# EAGLE library part BCK_LM (library Eagle_CAD_parts)
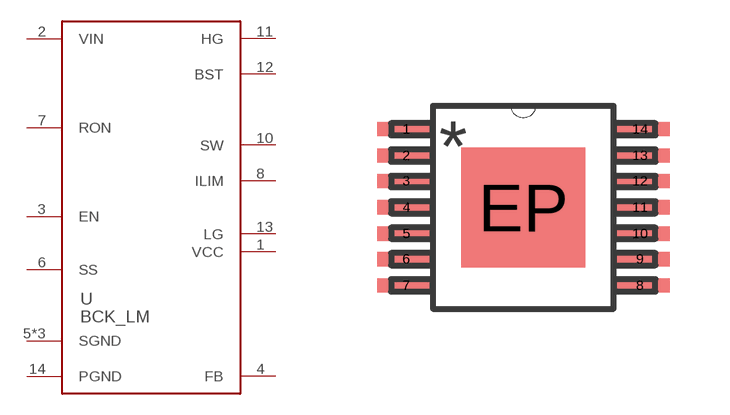
[diagram p50: symbol with the pads of 14-TSSOP-W/EP; footprint 14-TSSOP-W/EP]

Designator prefix U

## BCK_LM3150MH (DIGIKEY_PART_NUMBER: 296-35276-1-ND; MANUFACTURER_PART_NUMBER: LM3150MHX/NOPB)  [14-TSSOP-W/EP]
1  VCC
2  VIN
3  EN
4  FB
5  SGND
6  SS
7  RON
8  ILIM
9  SGND
10  SW
11  HG
12  BST
13  LG
14  PGND
EP  SGND

## Footprint 14-TSSOP-W/EP (pad centres in mm)
smd 1.473 x 0.356: 1 -2.921,1.956; 2 -2.921,1.295; 3 -2.921,0.66; 4 -2.921,0; 5 -2.921,-0.66; 6 -2.921,-1.295; 7 -2.921,-1.956; 8 2.921,-1.956; 9 2.921,-1.295; 10 2.921,-0.66; 11 2.921,0; 12 2.921,0.66; 13 2.921,1.295; 14 2.921,1.956
smd 3.1 x 3: EP 0,0